# Altium schematic symbol library 691 242 610 0xx.SchLib: 3 symbols
Pins are listed as number, name and electrical type; pins without a type are passive.

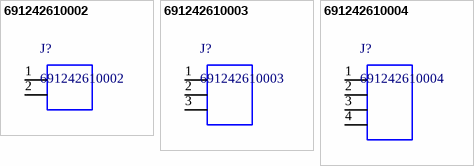
[diagram p0: symbols 691242610002 to 691242610004]

## 691242610002
designator J?
WR-TBL Horizontal Cable Entry With Rising Cage Clamp,Serie 2426 - 10.16 mm; Manufacturer: Wurth Elektronik; ComponentLink1 Description: Manufacturer; ComponentLink2 Description: Datasheet; ComponentLink1URL: http://www.we-online.de; ComponentLink2URL: http://katalog.we-online.de/em/datasheet/6912426100xx.pdf; Created by: Baojun Chen; Created Date: 8.Sep.2015; partNo: 691242610002
footprint 691242610002 (Serie 2426 - 10.16 mm _ 2 pins)
pins: 1, 2

## 691242610003
designator J?
WR-TBL Horizontal Cable Entry With Rising Cage Clamp,Serie 2426 - 10.16 mm; Manufacturer: Wurth Elektronik; ComponentLink1 Description: Manufacturer; ComponentLink2 Description: Datasheet; ComponentLink1URL: http://www.we-online.de; ComponentLink2URL: http://katalog.we-online.de/em/datasheet/6912426100xx.pdf; Created by: Baojun Chen; Created Date: 8.Sep.2015; partNo: 691242610003
footprint 691242610003 (Serie 2426 - 10.16 mm _ 3 pins)
pins: 1, 2, 3

## 691242610004
designator J?
WR-TBL Horizontal Cable Entry With Rising Cage Clamp,Serie 2426 - 10.16 mm; Manufacturer: Wurth Elektronik; ComponentLink1 Description: Manufacturer; ComponentLink2 Description: Datasheet; ComponentLink1URL: http://www.we-online.de; ComponentLink2URL: http://katalog.we-online.de/em/datasheet/6912426100xx.pdf; Created by: Baojun Chen; Created Date: 8.Sep.2015; partNo: 691242610004
footprint 691242610004 (Serie 2426 - 10.16 mm _ 4 pins)
pins: 1, 2, 3, 4